# Altium footprint library Potentiometer_SMD.PcbLib: 26 footprints (part 1 of 2)
Each footprint in its own frame and in the unit in brackets; x right, y up, seen from the top. Pads: shape width x height; smd on the part's side, far side on the other; paste and mask are expansions set on the pad; w line width, h text height; cw(c..) or ccw(c..) is an arc to the next point about the centre after c.
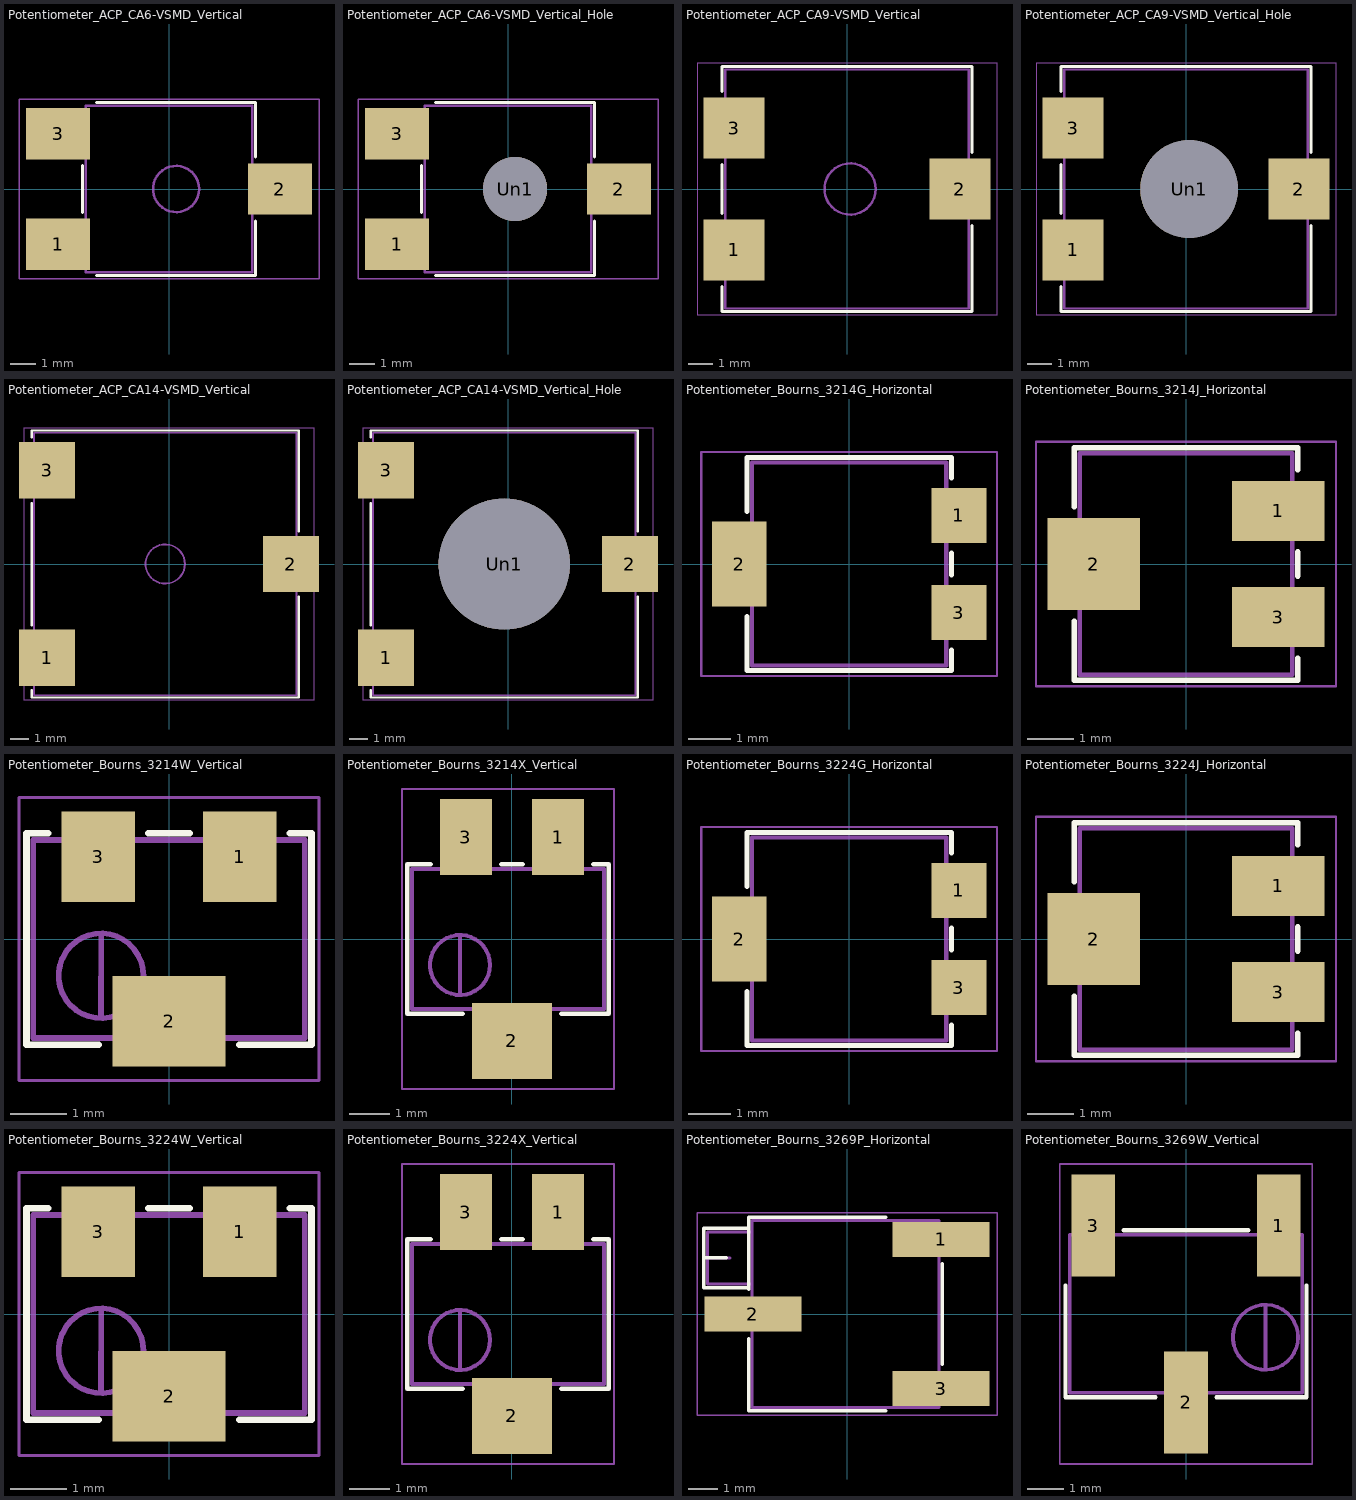
[diagram p0: the footprints below, top view; thin cyan lines are the x and y axes]

## Potentiometer_ACP_CA6-VSMD_Vertical [mm]
pads (3):
  rect 2.5x2 smd: 1(-4.325,-2.15) 2(4.325,0) 3(-4.325,2.15)
F.SilkS:
  lines w0.12: -3.37,-0.91 -3.37,0.909 ; -2.834,-3.37 3.37,-3.37 3.37,-1.24 ; -2.834,3.371 3.37,3.371 3.37,1.24
F.CrtYd:
  lines w0.05: -5.85,-3.5 5.85,-3.5 5.85,3.5 -5.85,3.5 -5.85,-3.5
F.Fab:
  circle w0.1: c0.275,0 r0.9
  lines w0.1: -3.25,-3.25 -3.25,3.25 3.25,3.25 3.25,-3.25 -3.25,-3.25
  text "'.Designator'" at -1.41,-4.047 h1

## Potentiometer_ACP_CA6-VSMD_Vertical_Hole [mm]
pads (4):
  rect 2.5x2 smd: 1(-4.325,-2.15) 2(4.325,0) 3(-4.325,2.15)
  round 2.5 hole 2.5: Un1(0.275,0)
F.SilkS:
  lines w0.12: -3.37,-0.91 -3.37,0.909 ; -2.834,-3.37 3.37,-3.37 3.37,-1.24 ; -2.834,3.371 3.37,3.371 3.37,1.24
F.CrtYd:
  lines w0.05: -5.85,-3.5 -5.85,3.5 5.85,3.5 5.85,-3.5 -5.85,-3.5
F.Fab:
  lines w0.1: -3.25,-3.25 -3.25,3.25 3.25,3.25 3.25,-3.25 -3.25,-3.25
  text "'.Designator'" at -1.41,-4.047 h1

## Potentiometer_ACP_CA9-VSMD_Vertical [mm]
pads (3):
  rect 2.5x2.5 smd: 1(-4.625,-2.5) 2(4.625,0) 3(-4.625,2.5)
F.SilkS:
  lines w0.12: -5.12,-3.99 -5.12,-5.02 5.12,-5.02 5.12,-1.49 ; -5.12,-1.01 -5.12,1.009 ; -5.12,3.991 -5.12,5.021 5.12,5.021 5.12,1.49
F.CrtYd:
  lines w0.05: -6.15,-5.15 6.15,-5.15 6.15,5.15 -6.15,5.15 -6.15,-5.15
F.Fab:
  circle w0.1: c0.125,0 r1.05
  lines w0.1: -5,-4.9 -5,4.9 5,4.9 5,-4.9 -5,-4.9
  text "'.Designator'" at -3.16,-4.047 h1

## Potentiometer_ACP_CA9-VSMD_Vertical_Hole [mm]
pads (4):
  rect 2.5x2.5 smd: 1(-4.625,-2.5) 2(4.625,0) 3(-4.625,2.5)
  round 4 hole 4: Un1(0.125,0)
F.SilkS:
  lines w0.12: -5.12,-3.99 -5.12,-5.02 5.12,-5.02 5.12,-1.49 ; -5.12,-1.01 -5.12,1.009 ; -5.12,3.991 -5.12,5.021 5.12,5.021 5.12,1.49
F.CrtYd:
  lines w0.05: -6.15,-5.15 -6.15,5.15 6.15,5.15 6.15,-5.15 -6.15,-5.15
F.Fab:
  lines w0.1: -5,-4.9 5,-4.9 5,4.9 -5,4.9 -5,-4.9
  text "'.Designator'" at -3.16,-4.047 h1

## Potentiometer_ACP_CA14-VSMD_Vertical [mm]
pads (3):
  rect 3x3 smd: 1(-6.5,-5) 2(6.5,0) 3(-6.5,5)
F.SilkS:
  lines w0.12: -7.32,-6.74 -7.32,-7.12 6.92,-7.12 6.92,-1.74 ; -7.32,-3.26 -7.32,3.259 ; -7.32,6.741 -7.32,7.12 6.92,7.12 6.92,1.74
F.CrtYd:
  lines w0.05: -7.75,-7.25 -7.75,7.25 7.75,7.25 7.75,-7.25 -7.75,-7.25
F.Fab:
  circle w0.1: c-0.2,0 r1.05
  lines w0.1: -7.2,-7 6.8,-7 6.8,7 -7.2,7 -7.2,-7
  text "'.Designator'" at -5.36,-4.047 h1

## Potentiometer_ACP_CA14-VSMD_Vertical_Hole [mm]
pads (4):
  rect 3x3 smd: 1(-6.5,-5) 2(6.5,0) 3(-6.5,5)
  round 7 hole 7: Un1(-0.2,0)
F.SilkS:
  lines w0.12: -7.32,-6.74 -7.32,-7.12 6.92,-7.12 6.92,-1.74 ; -7.32,-3.26 -7.32,3.259 ; -7.32,6.741 -7.32,7.12 6.92,7.12 6.92,1.74
F.CrtYd:
  lines w0.05: -7.75,-7.25 -7.75,7.25 7.75,7.25 7.75,-7.25 -7.75,-7.25
F.Fab:
  lines w0.1: -7.2,-7 -7.2,7 6.8,7 6.8,-7 -7.2,-7
  text "'.Designator'" at -5.36,-4.047 h1

## Potentiometer_Bourns_3214G_Horizontal [mm]
pads (3):
  rect 1.3x1.3 smd: 1(2.6,1.15) 3(2.6,-1.15)
  rect 1.3x2 smd: 2(-2.6,0)
F.SilkS:
  lines w0.12: -2.42,-1.24 -2.42,-2.52 2.42,-2.52 2.42,-2.04 ; 2.42,-0.26 2.42,0.26 ; 2.42,2.04 2.42,2.52 -2.42,2.52 -2.42,1.24 ; -2.42,1.24 -2.42,2.14 -2.42,1.24
F.CrtYd:
  lines w0.05: -3.5,-2.65 3.5,-2.65 3.5,2.65 -3.5,2.65 -3.5,-2.65
F.Fab:
  lines w0.1: -2.3,-2.4 2.3,-2.4 2.3,2.4 -2.3,2.4 -2.3,-2.4 ; -2.3,0.24 -2.3,2.02 -2.3,0.24
  text "'.Designator'" at -4.047,-0.84 h1

## Potentiometer_Bourns_3214J_Horizontal [mm]
pads (3):
  rect 2x1.3 smd: 1(2,1.15) 3(2,-1.15)
  rect 2x2 smd: 2(-2,0)
F.SilkS:
  lines w0.12: -2.42,-1.24 -2.42,-2.52 2.42,-2.52 2.42,-2.04 ; 2.42,-0.26 2.42,0.26 ; 2.42,2.04 2.42,2.52 -2.42,2.52 -2.42,1.24 ; -2.42,1.24 -2.42,2.14 -2.42,1.24
F.CrtYd:
  lines w0.05: -3.25,-2.65 3.25,-2.65 3.25,2.65 -3.25,2.65 -3.25,-2.65
F.Fab:
  lines w0.1: -2.3,-2.4 -2.3,2.4 2.3,2.4 2.3,-2.4 -2.3,-2.4 ; -2.3,0.24 -2.3,2.02 -2.3,0.24
  text "'.Designator'" at -4.047,-0.84 h1

## Potentiometer_Bourns_3214W_Vertical [mm]
pads (3):
  rect 1.3x1.6 smd: 1(1.25,1.45) 3(-1.25,1.45)
  rect 2x1.6 smd: 2(0,-1.45)
F.SilkS:
  lines w0.12: -2.14,1.87 -2.52,1.87 -2.52,-1.87 -1.24,-1.87 ; -0.36,1.87 0.36,1.87 ; 1.24,-1.87 2.52,-1.87 2.52,1.87 2.14,1.87
F.CrtYd:
  lines w0.05: -2.65,-2.5 -2.65,2.5 2.65,2.5 2.65,-2.5 -2.65,-2.5
F.Fab:
  circle w0.1: c-1.2,-0.65 r0.75
  lines w0.1: -2.4,-1.75 2.4,-1.75 2.4,1.75 -2.4,1.75 -2.4,-1.75 ; -1.2,-1.393 -1.199,0.092 -1.2,-1.393
  text "'.Designator'" at -1.888,-0.564 h0.6

## Potentiometer_Bourns_3214X_Vertical [mm]
pads (3):
  rect 1.3x1.9 smd: 1(1.15,2.55) 3(-1.15,2.55)
  rect 2x1.9 smd: 2(0,-2.55)
F.SilkS:
  lines w0.12: -2.039,1.87 -2.62,1.87 -2.62,-1.87 -1.24,-1.87 ; -0.26,1.87 0.26,1.87 ; 1.24,-1.87 2.42,-1.87 2.42,1.87 2.04,1.87
F.CrtYd:
  lines w0.05: -2.75,-3.75 -2.75,3.75 2.55,3.75 2.55,-3.75 -2.75,-3.75
F.Fab:
  circle w0.1: c-1.3,-0.65 r0.75
  lines w0.1: -2.5,-1.75 -2.5,1.75 2.3,1.75 2.3,-1.75 -2.5,-1.75 ; -1.3,-1.393 -1.299,0.092 -1.3,-1.393
  text "'.Designator'" at -1.988,-0.564 h0.6

## Potentiometer_Bourns_3224G_Horizontal [mm]
pads (3):
  rect 1.3x1.3 smd: 1(2.6,1.15) 3(2.6,-1.15)
  rect 1.3x2 smd: 2(-2.6,0)
F.SilkS:
  lines w0.12: -2.42,-1.24 -2.42,-2.52 2.42,-2.52 2.42,-2.04 ; 2.42,-0.26 2.42,0.26 ; 2.42,2.04 2.42,2.52 -2.42,2.52 -2.42,1.24 ; -2.42,1.24 -2.42,2.14 -2.42,1.24
F.CrtYd:
  lines w0.05: -3.5,-2.65 3.5,-2.65 3.5,2.65 -3.5,2.65 -3.5,-2.65
F.Fab:
  lines w0.1: -2.3,-2.4 2.3,-2.4 2.3,2.4 -2.3,2.4 -2.3,-2.4 ; -2.3,0.24 -2.3,2.02 -2.3,0.24
  text "'.Designator'" at -4.047,-0.84 h1

## Potentiometer_Bourns_3224J_Horizontal [mm]
pads (3):
  rect 2x1.3 smd: 1(2,1.15) 3(2,-1.15)
  rect 2x2 smd: 2(-2,0)
F.SilkS:
  lines w0.12: -2.42,-1.24 -2.42,-2.52 2.42,-2.52 2.42,-2.04 ; 2.42,-0.26 2.42,0.26 ; 2.42,2.04 2.42,2.52 -2.42,2.52 -2.42,1.24 ; -2.42,1.24 -2.42,2.14 -2.42,1.24
F.CrtYd:
  lines w0.05: -3.25,-2.65 3.25,-2.65 3.25,2.65 -3.25,2.65 -3.25,-2.65
F.Fab:
  lines w0.1: -2.3,-2.4 2.3,-2.4 2.3,2.4 -2.3,2.4 -2.3,-2.4 ; -2.3,0.24 -2.3,2.02 -2.3,0.24
  text "'.Designator'" at -4.047,-0.84 h1

## Potentiometer_Bourns_3224W_Vertical [mm]
pads (3):
  rect 1.3x1.6 smd: 1(1.25,1.45) 3(-1.25,1.45)
  rect 2x1.6 smd: 2(0,-1.45)
F.SilkS:
  lines w0.12: -2.14,1.87 -2.52,1.87 -2.52,-1.87 -1.24,-1.87 ; -0.36,1.87 0.36,1.87 ; 1.24,-1.87 2.52,-1.87 2.52,1.87 2.14,1.87
F.CrtYd:
  lines w0.05: -2.65,-2.5 2.65,-2.5 2.65,2.5 -2.65,2.5 -2.65,-2.5
F.Fab:
  circle w0.1: c-1.2,-0.65 r0.75
  lines w0.1: -2.4,-1.75 2.4,-1.75 2.4,1.75 -2.4,1.75 -2.4,-1.75 ; -1.2,-1.393 -1.199,0.092 -1.2,-1.393
  text "'.Designator'" at -1.888,-0.564 h0.6

## Potentiometer_Bourns_3224X_Vertical [mm]
pads (3):
  rect 1.3x1.9 smd: 1(1.15,2.55) 3(-1.15,2.55)
  rect 2x1.9 smd: 2(0,-2.55)
F.SilkS:
  lines w0.12: -2.039,1.87 -2.62,1.87 -2.62,-1.87 -1.24,-1.87 ; -0.26,1.87 0.26,1.87 ; 1.24,-1.87 2.42,-1.87 2.42,1.87 2.04,1.87
F.CrtYd:
  lines w0.05: -2.75,-3.75 2.55,-3.75 2.55,3.75 -2.75,3.75 -2.75,-3.75
F.Fab:
  circle w0.1: c-1.3,-0.65 r0.75
  lines w0.1: -2.5,-1.75 2.3,-1.75 2.3,1.75 -2.5,1.75 -2.5,-1.75 ; -1.3,-1.393 -1.299,0.092 -1.3,-1.393
  text "'.Designator'" at -1.988,-0.564 h0.6

## Potentiometer_Bourns_3269P_Horizontal [mm]
pads (3):
  rect 3.3x1.19 smd: 1(3.2,2.54) 2(-3.2,0) 3(3.2,-2.54)
F.SilkS:
  lines w0.12: -4.865,1.905 -4.106,1.905 ; -3.345,-0.835 -3.345,-3.295 1.31,-3.295 ; -3.345,0.835 -3.345,3.295 1.31,3.295 ; 3.245,-1.705 3.245,1.705 ; -4.865,0.895 -3.346,0.895 -3.346,2.915 -4.865,2.915 -4.865,0.895
F.CrtYd:
  lines w0.05: -5.1,-3.45 5.1,-3.45 5.1,3.45 -5.1,3.45 -5.1,-3.45
F.Fab:
  lines w0.1: -4.745,1.905 -3.985,1.905 ; -4.745,1.015 -3.225,1.015 -3.225,2.795 -4.745,2.795 -4.745,1.015 ; -3.225,-3.175 -3.225,3.175 3.125,3.175 3.125,-3.175 -3.225,-3.175
  text "'.Designator'" at -4.097,-0.84 h1

## Potentiometer_Bourns_3269W_Vertical [mm]
pads (3):
  rect 1.19x2.79 smd: 1(2.54,2.415) 2(0,-2.415) 3(-2.54,2.415)
F.SilkS:
  lines w0.12: -3.295,0.779 -3.295,-2.275 -0.835,-2.275 ; -1.705,2.285 1.705,2.285 ; 0.835,-2.275 3.295,-2.275 3.295,0.779
F.CrtYd:
  lines w0.05: -3.45,-4.1 3.45,-4.1 3.45,4.1 -3.45,4.1 -3.45,-4.1
F.Fab:
  circle w0.1: c2.173,-0.635 r0.89
  lines w0.1: -3.175,-2.155 -3.175,2.165 3.175,2.165 3.175,-2.155 -3.175,-2.155 ; 2.173,-1.517 2.174,0.246 2.173,-1.517
  text "'.Designator'" at -4.119,-0.759 h0.89